# EAGLE library part VIJ-T1EX (library Components Library)
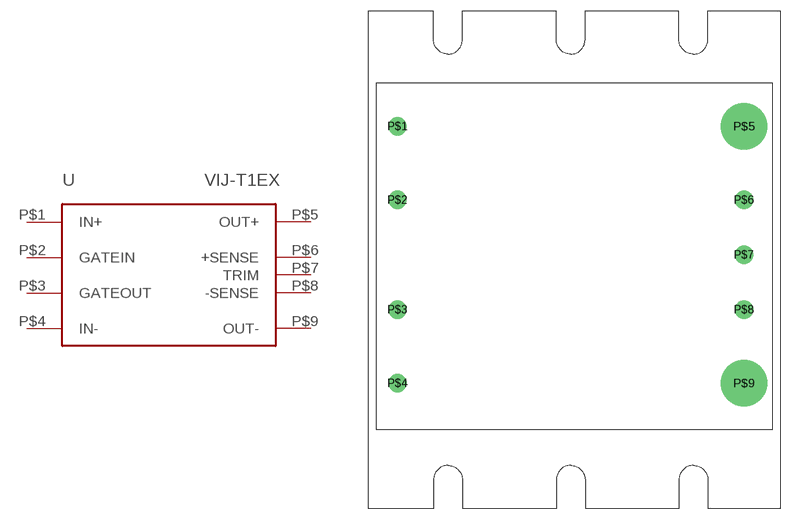
[diagram p20: symbol with the pads of VIJ-T1EX; footprint VIJ-T1EX]

Designator prefix -

## VIJ-T1EX  [VIJ-T1EX]
P$1  IN+
P$2  GATEIN
P$3  GATEOUT
P$4  IN-
P$5  OUT+
P$6  +SENSE
P$7  TRIM
P$8  -SENSE
P$9  OUT-

## Footprint VIJ-T1EX (pad centres in mm)
drill 1 pad 2.54: P$1 -24,18; P$2 -24,7.8; P$3 -24,-7.4; P$4 -24,-17.6; P$6 24,7.8; P$7 24,0.2; P$8 24,-7.4
drill 2 pad 6.452: P$5 24,18; P$9 24,-17.6